# EAGLE library part STEPUPCONVERTER (library crawford)
LTC3528/LTC2528B 1A 1MHz Synchronous Step-Up DC/DC Converters in 3mm x 2mm DFN Manufacturer: Linear Technology
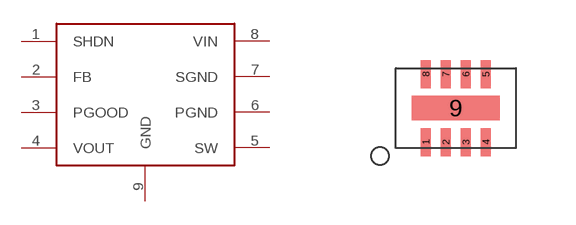
[diagram p0: symbol with the pads of LTC3528/LTC3528B; footprint LTC3528/LTC3528B]

Designator prefix -

## STEPUPCONVERTER  [LTC3528/LTC3528B]
1  SHDN  in
2  FB
3  PGOOD
4  VOUT  sup
5  SW
6  PGND
7  SGND
8  VIN  in
9  GND  pwr

## Footprint LTC3528/LTC3528B (pad centres in mm)
smd 0.25 x 0.7: 1 -0.75,-0.85; 2 -0.25,-0.85; 3 0.25,-0.85; 4 0.75,-0.85; 5 0.75,0.85; 6 0.25,0.85; 7 -0.25,0.85; 8 -0.75,0.85
smd 2.2 x 0.61: 9 0,0